# Altium footprint library MODULE_FEATHER_M0_BASIC_PROTO.PcbLib: 1 footprints
Each footprint in its own frame and in the unit in brackets; x right, y up, seen from the top. Pads: shape width x height; smd on the part's side, far side on the other; paste and mask are expansions set on the pad; w line width, h text height; cw(c..) or ccw(c..) is an arc to the next point about the centre after c.
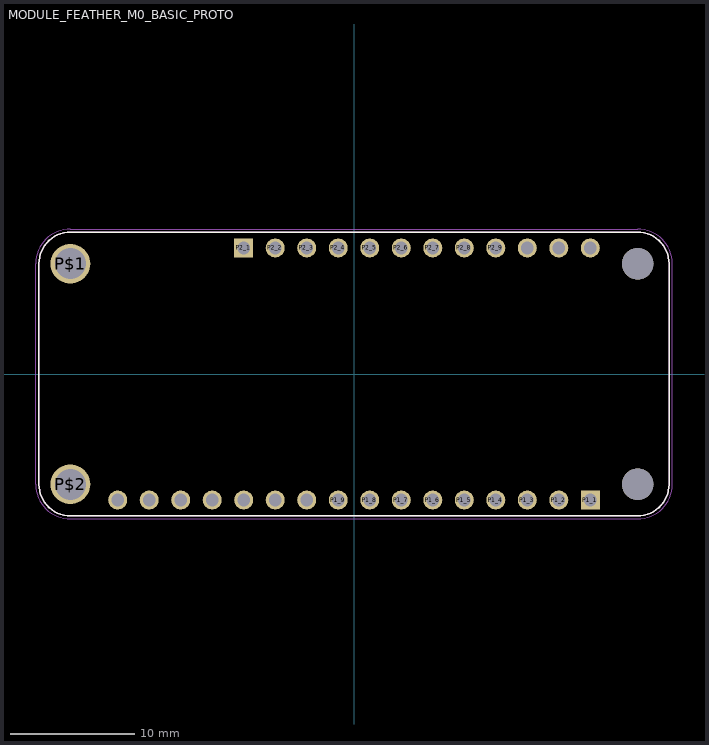
[diagram p0: the footprint, top view; thin cyan lines are the x and y axes]

## MODULE_FEATHER_M0_BASIC_PROTO [mm]
pads (32):
  rect 1.53x1.53 hole 1.02: P1_1(19.05,-10.16) P2_1(-8.89,10.16)
  round 1.53 hole 1.02: P1_2(16.51,-10.16) P1_3(13.97,-10.16) P1_4(11.43,-10.16) P1_5(8.89,-10.16) P1_6(6.35,-10.16) P1_7(3.81,-10.16) P1_8(1.27,-10.16) P1_9(-1.27,-10.16) P1_10(-3.81,-10.16) P1_11(-6.35,-10.16) P1_12(-8.89,-10.16) P1_13(-11.43,-10.16) P1_14(-13.97,-10.16) P1_15(-16.51,-10.16) P1_16(-19.05,-10.16) P2_2(-6.35,10.16) P2_3(-3.81,10.16) P2_4(-1.27,10.16) P2_5(1.27,10.16) P2_6(3.81,10.16) P2_7(6.35,10.16) P2_8(8.89,10.16) P2_9(11.43,10.16) P2_10(13.97,10.16) P2_11(16.51,10.16) P2_12(19.05,10.16)
  round 3.2 hole 2.5: P$1(-22.86,8.89) P$2(-22.86,-8.89)
  round 2.54 hole 2.54 unplated: ""(22.86,-8.89) ""(22.86,8.89)
Top Overlay:
  lines w0.127: -25.4,-8.89 ccw(c-22.86,-8.89) -22.86,-11.43 22.86,-11.43 ccw(c22.86,-8.89) 25.4,-8.89 25.4,8.89 ccw(c22.86,8.89) 22.86,11.43 -22.86,11.43 ccw(c-22.86,8.89) -25.4,8.89 -25.4,-8.89
Mechanical 13:
  lines w0.127: -25.4,-8.89 ccw(c-22.86,-8.89) -22.86,-11.43 22.86,-11.43 ccw(c22.86,-8.89) 25.4,-8.89 25.4,8.89 ccw(c22.86,8.89) 22.86,11.43 -22.86,11.43 ccw(c-22.86,8.89) -25.4,8.89 -25.4,-8.89
Mechanical 15:
  lines w0.05: -25.65,-8.89 ccw(c-22.86,-8.89) -22.86,-11.68 22.86,-11.68 ccw(c22.86,-8.89) 25.65,-8.89 25.65,8.89 ccw(c22.86,8.89) 22.86,11.68 -22.86,11.68 ccw(c-22.86,8.89) -25.65,8.89 -25.65,-8.89